# Altium schematic symbol library ATSAMD21E18A-MUT.SchLib: 1 symbol
Pins are listed as number, name and electrical type; pins without a type are passive.

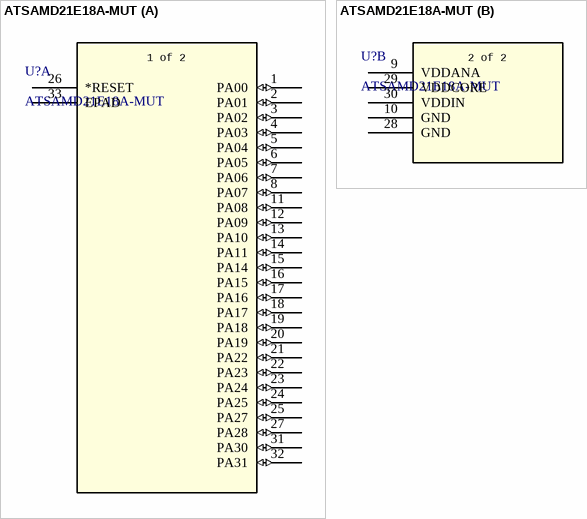
[diagram p0: symbol ATSAMD21E18A-MUT]

## ATSAMD21E18A-MUT
designator U?
Description; Manufacturer_Name: Microchip; Copyright: Copyright (C) 2026 Ultra Librarian. All rights reserved.; Manufacturer_Part_Number: ATSAMD21E18A-MUT; RefDes: RefDes; Type: Type
footprint QFN32_5X5MC_MCH
part A pins: 1 PA00 (io), 2 PA01 (io), 3 PA02 (io), 4 PA03 (io), 5 PA04 (io), 6 PA05 (io), 7 PA06 (io), 8 PA07 (io), 11 PA08 (io), 12 PA09 (io), 13 PA10 (io), 14 PA11 (io), 15 PA14 (io), 16 PA15 (io), 17 PA16 (io), 18 PA17 (io), 19 PA18 (io), 20 PA19 (io), 21 PA22 (io), 22 PA23 (io), 23 PA24 (io), 24 PA25 (io), 25 PA27 (io), 26 *RESET, 27 PA28 (io), 31 PA30 (io), 32 PA31 (io), 33 EPAD
part B pins: 9 VDDANA (power), 10 GND (power), 28 GND (power), 29 VDDCORE (power), 30 VDDIN (power)
part A text: 1 of 2
part B text: 2 of 2